# Altium footprint library USB_CTRL.PcbLib: 1 footprints
Each footprint in its own frame and in the unit in brackets; x right, y up, seen from the top. Pads: shape width x height; smd on the part's side, far side on the other; paste and mask are expansions set on the pad; w line width, h text height; cw(c..) or ccw(c..) is an arc to the next point about the centre after c.
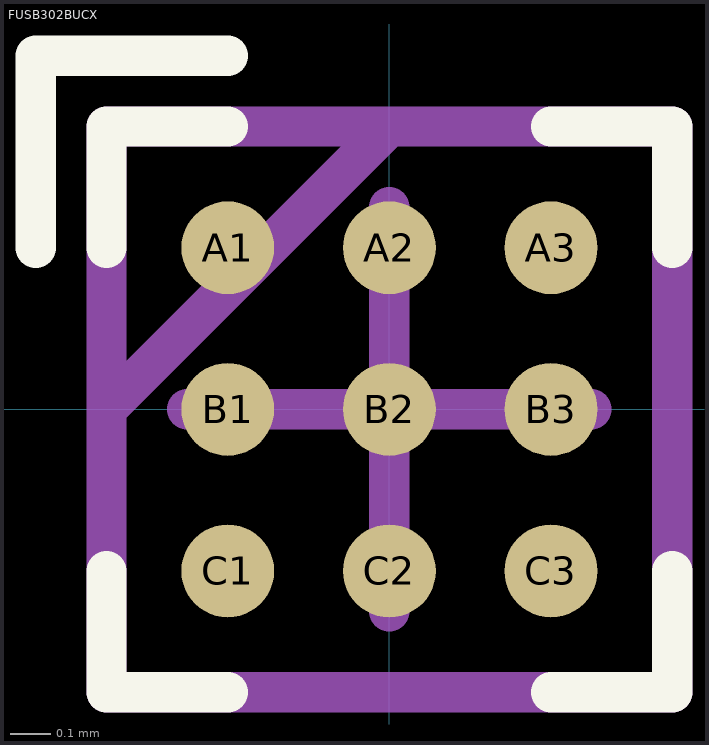
[diagram p0: the footprint, top view; thin cyan lines are the x and y axes]

## FUSB302BUCX [mm] "-40℃~+85℃ 2.8V~5.5V Controller WLCSP-9(1.2x1.3) USB Converters ROHS"
height 0.49
pads (9):
  round 0.23 smd mask-2539.97: A1(-0.4,0.4) A2(0,0.4) A3(0.4,0.4) B1(-0.4,0) B2(0,0) B3(0.4,0) C1(-0.4,-0.4) C2(0,-0.4) C3(0.4,-0.4)
Top Overlay:
  lines w0.1: -0.875,0.4 -0.875,0.875 -0.4,0.875 ; -0.7,-0.4 -0.7,-0.7 -0.4,-0.7 ; -0.7,0.4 -0.7,0.7 -0.4,0.7 ; 0.4,-0.7 0.7,-0.7 0.7,-0.4 ; 0.4,0.7 0.7,0.7 0.7,0.4
Top Solder:
  circle w0.165: c0.4,-0.4 r0.082
  circle w0.165: c0,-0.4 r0.082
  circle w0.165: c-0.4,-0.4 r0.082
  circle w0.165: c0.4,0 r0.082
  circle w0.165: c0,0 r0.082
  circle w0.165: c-0.4,0 r0.082
  circle w0.165: c0.4,0.4 r0.082
  circle w0.165: c0,0.4 r0.082
  circle w0.165: c-0.4,0.4 r0.082
Top Designator:
  text ".Designator" at -3.139,1.231 h0.51
Mechanical 13:
  lines w0.1: -0.7,0 0,0.7 ; -0.7,-0.7 0.7,-0.7 0.7,0.7 -0.7,0.7 -0.7,-0.7
Mechanical 15:
  lines w0.1: -0.5,0 0.5,0 ; 0,-0.5 0,0.5 ; -0.7,-0.7 0.7,-0.7 0.7,0.7 -0.7,0.7 -0.7,-0.7
3D body "BGA9C40P3X3_126X122X49.step": height 0.49, standoff 0, extent -0.63,-0.61 0.63,0.61